# Altium footprint library Crazy_PCB.PcbLib: 155 footprints (part 10 of 10)
Each footprint in its own frame and in the unit in brackets; x right, y up, seen from the top. Pads: shape width x height; smd on the part's side, far side on the other; paste and mask are expansions set on the pad; w line width, h text height; cw(c..) or ccw(c..) is an arc to the next point about the centre after c.
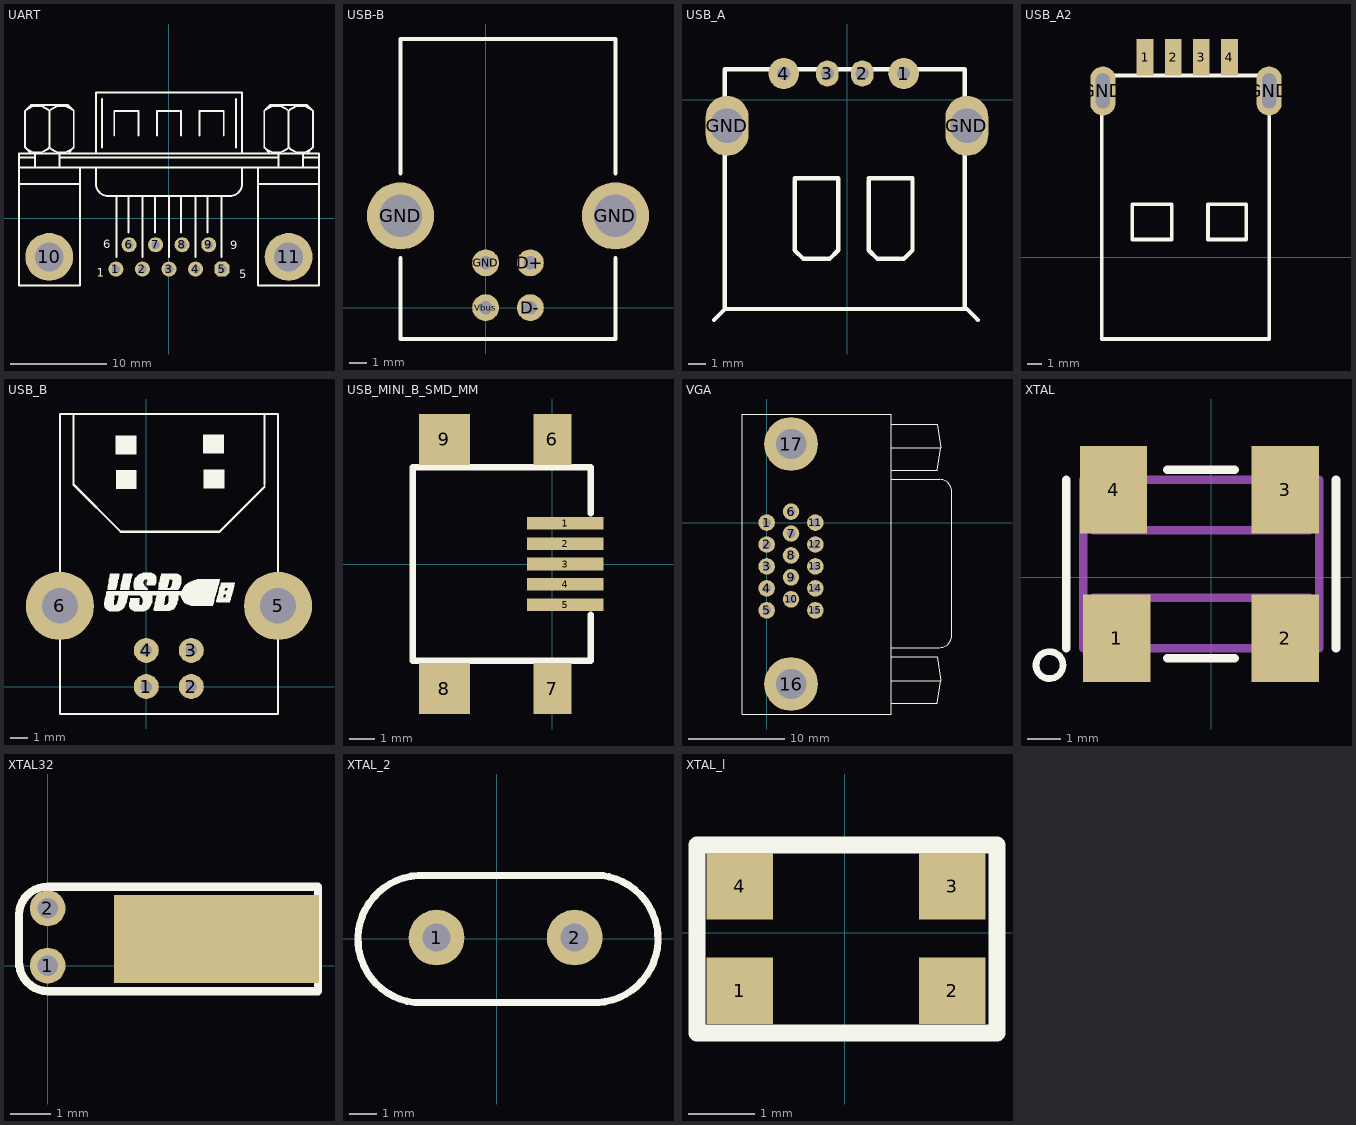
[diagram p9: the footprints below, top view; thin cyan lines are the x and y axes]

## UART [mil]
pads (11):
  round 62 hole 35: 1(-218.28,-209.25) 2(-109.11,-209.25) 3(0.05,-209.25) 4(109.22,-209.25) 6(-164.11,-109.25) 7(-54.95,-109.25) 8(54.22,-109.25) 9(163.39,-109.25)
  oct 62x62 hole 35: 5(218.39,-209.25)
  round 196.67 hole 118.33: 10(-492.45,-159.25) 11(491.72,-159.25)
Top Overlay:
  lines w8: -616.61,140.75 -366.61,140.75 ; -616.61,207.41 616.72,207.41 ; -616.61,249.08 -549.95,249.08 ; -591.7,290.66 ccw(c-541.61,340.75) -491.53,290.66 ; -591.7,440.83 cw(c-541.61,390.75) -491.53,440.83 ; -566.61,265.75 -591.61,290.75 -591.61,440.75 -566.61,465.75 -416.61,465.75 -391.61,440.75 -391.61,290.75 -416.61,265.75 ; -549.95,207.41 -549.95,265.75 ; -491.7,290.66 ccw(c-441.61,340.75) -391.53,290.66 ; -491.7,440.83 cw(c-441.61,390.75) -391.53,440.83 ; -491.61,290.75 -491.61,440.75 ; -449.95,207.41 -449.95,265.75 ; -449.95,249.08 450.05,249.08 ; -366.61,207.41 -366.61,-275.92 -616.61,-275.92 -616.61,265.75 616.72,265.75 616.72,-275.92 366.72,-275.92 366.72,207.41 ; -299.95,207.41 -299.95,140.75 ccw(c-249.95,140.75) -249.95,90.75 250.05,90.75 ccw(c250.05,140.75) 300.05,140.75 300.05,207.41 ; -299.95,265.75 -299.95,515.75 300.05,515.75 300.05,265.75 ; -274.95,290.75 -274.95,490.75 ; -224.95,340.75 -224.95,440.75 -124.95,440.75 -124.95,340.75 ; -216.61,-159.25 -216.61,90.75 ; -166.61,-59.25 -166.61,90.75 ; -108.28,-159.25 -108.28,90.75 ; -58.28,-59.25 -58.28,90.75 ; -49.95,340.75 -49.95,440.75 50.05,440.75 50.05,340.75 ; 0.05,-159.25 0.05,90.75 ; 50.05,-59.25 50.05,90.75 ; 108.39,-159.25 108.39,90.75 ; 125.05,340.75 125.05,440.75 225.05,440.75 225.05,340.75 ; 158.39,-59.25 158.39,90.75 ; 216.72,-159.25 216.72,90.75 ; 275.05,290.75 275.05,490.75 ; 366.72,140.75 616.72,140.75 ; 391.63,290.66 ccw(c441.72,340.75) 491.81,290.66 ; 391.63,440.83 cw(c441.72,390.75) 491.81,440.83 ; 416.72,265.75 391.72,290.75 391.72,440.75 416.72,465.75 566.72,465.75 591.72,440.75 591.72,290.75 566.72,265.75 ; 450.05,207.41 450.05,265.75 ; 491.63,290.66 ccw(c541.72,340.75) 591.81,290.66 ; 491.63,440.83 cw(c541.72,390.75) 591.81,440.83 ; 491.72,290.75 491.72,440.75 ; 550.05,207.41 550.05,265.75 ; 550.05,249.08 616.72,249.08
  text "1" at -296.18,-241.54 h35
  text "6" at -270.2,-124.61 h35
  text "5" at 289.25,-247.44 h35
  text "9" at 251.85,-127.76 h35
3D body: height 236.22, standoff 0, extent 366.74,-275.9 616.93,207.48
3D body: height 236.22, standoff 0, extent -616.59,-275.9 -366.54,205.12
3D body: height 236.22, standoff 118.11, extent -617.32,207.87 615.35,251.18
3D body: height 236.22, standoff 118.11, extent -299.93,265.77 300.03,515.73
3D body: height 236.22, standoff 0, extent -368.9,-277.56 367.32,207.87
3D body: height 0, standoff 0, extent -49.97,340.73 50.07,440.77
3D body: height 236.22, standoff 118.11, extent -589.3,271.06 -388.98,475
3D body: height 236.22, standoff 118.11, extent 392.59,281.3 592.91,485.24

## USB-B [mil]
pads (6):
  round 60 hole 30: D+(100,100) D-(100,0) GND(0,100) Vbus(0,0)
  round 150 hole 95: GND(-190,205) GND(290,205)
Top Overlay:
  lines w9.84: -190,110 -190,-70 0,-70 290,-70 290,110 ; -190,300 -190,600 290,600 290,300
3D body: height 393.7, standoff 0, extent -194.92,-74.92 294.92,604.92

## USB_A [mil]
pads (6):
  round 70.87 hole 30: 1(130,60) 4(-145,60)
  oval 52.13x60 hole 30: 2(35,60) 3(-45,60)
  oval 98.42x137.79 hole 78.74: GND(-275,-60) GND(275,-60)
Top Overlay:
  lines w9.84: -305,-505 -280,-480 ; -280,65 -280,-480 ; -280,70 270,70 270,-480 ; -120,-185 -120,-345 -100,-365 -50,-365 ; -120,-180 -20,-180 -20,-345 -40,-365 -45,-365 ; 50,-185 50,-345 70,-365 120,-365 ; 50,-180 150,-180 150,-345 130,-365 125,-365 ; 300,-505 275,-480 270,-480 ; -280,-480 270,-480
3D body: height 118.11, standoff 0, extent -309.92,-509.92 304.92,74.92

## USB_A2 [mm]
pads (6):
  rect 1.2x2.6 smd: 1(-21.9,14.27) 2(-19.9,14.27) 3(-17.9,14.27) 4(-15.9,14.27)
  oval 1.8x3.5 hole 1 slot 2.5 at 90 deg: GND(-24.91,11.87) GND(-13.07,11.87)
Top Overlay:
  lines w0.254: -24.99,12.95 -24.99,-5.81 -13.06,-5.81 -13.06,12.97 -24.98,12.97 ; -22.82,1.28 -20.01,1.28 -20.01,3.79 -22.82,3.79 -22.82,1.28 ; -17.42,1.28 -17.42,3.79 -14.7,3.79 -14.7,1.28 -17.42,1.28
3D body: height 3, standoff 0, extent -25.117,-5.937 -12.933,13.097

## USB_B [mil]
pads (6):
  round 55 hole 25: 1(0,0) 2(99,0) 3(99,79.74) 4(0,79.74)
  round 150 hole 78.74: 5(290,177.74) 6(-190,177.74)
Top Overlay:
  drawing of 1016 lines, arcs and shapes, not listed

## USB_MINI_B_SMD_MM [mm]
pads (9):
  rect 3x0.5 smd: 1(0.5,1.6) 2(0.5,0.8) 3(0.5,0) 4(0.5,-0.8) 5(0.5,-1.6)
  rect 1.5x2 smd: 6(0,4.9) 7(0,-4.9)
  rect 2x2 smd: 8(-4.25,-4.9) 9(-4.25,4.9)
Top Overlay:
  lines w0.254: 1.5,-2 1.5,-3.8 -5.5,-3.8 -5.5,3.8 1.5,3.8 1.5,2

## VGA [mil]
pads (17):
  round 68 hole 35: 1(0,0) 2(0,-90) 3(0,-180) 4(0,-270) 5(0,-360) 6(100,45) 7(100,-45) 8(100,-135) 9(100,-225) 10(100,-315) 11(200,0) 12(200,-90) 13(200,-180) 14(200,-270) 15(200,-360)
  round 220 hole 125: 16(100,-662) 17(100,322)
Top Overlay:
  lines w5: 510,-504 510,136 ; 510.24,441 510.24,445 ; 511,-740 699,-740 713,-648 ; 511,-648 713,-648 ; 511,-550 699,-550 713,-648 ; 511,-512.49 709,-512.49 ccw(c709,-462.49) 759,-462.49 759,126.49 ccw(c709,126.49) 709,176.49 511,176.49 ; 511,214 699,214 713,306 ; 511,306 713,306 ; 511,404 699,404 713,306 ; 510.24,445 510.24,-785 -100,-785 -100,445 510.24,445

## XTAL [mm]
pads (4):
  rect 2x2.6 smd: 1(-2.794,-1.808) 2(2.206,-1.808) 3(2.206,2.592) 4(-2.894,2.592)
Top Overlay:
  circle w0.2: c-4.794,-2.608 r0.4
  lines w0.254: -4.294,-2.108 -4.294,2.892 ; -1.294,-2.408 0.706,-2.408 ; -1.294,3.192 0.706,3.192 ; 3.706,-2.108 3.706,2.892
Mechanical 1:
  lines w0.254: -3.494,-2.108 -3.494,-0.908 -2.094,-0.908 -2.094,-2.108 ; -3.494,-0.608 2.906,-0.608 ; -3.494,1.392 2.906,1.392 ; -3.494,2.892 -3.494,1.692 -2.094,1.692 -2.094,2.892 ; 1.506,-2.108 1.506,-0.908 2.906,-0.908 2.906,-2.108 ; 1.506,2.892 1.506,1.692 2.906,1.692 2.906,2.892 ; -3.794,-2.108 3.206,-2.108 3.206,2.892 -3.794,2.892 -3.794,-2.108
3D body: height 1.5, standoff 0, extent -3.996,-3.21 3.308,3.994

## XTAL32 [mil]
pads (3):
  round 35 hole 20: 1(0,0) 2(0,56)
  rect 200x86 smd: ""(165,26)
Top Overlay:
  lines w8: -28,4 ccw(c0.5,3.5) 0,-25 264,-25 264,77 0,77 ccw(c-0.5,49.5) -28,50 -28,4
3D body: height 78.74, standoff 0, extent -32,-29 269,81

## XTAL_2 [mm]
pads (2):
  round 2 hole 1: 1(-2.157,0.035) 2(2.796,0.035)
Top Overlay:
  lines w0.25: -2.922,-2.289 3.682,-2.289 ; -2.815,2.266 3.84,2.266
  lines w0.254: -2.956,-2.294 cw(c-2.688,-0.02) -2.815,2.266 ; 3.625,-2.296 ccw(c3.498,-0.01) 3.766,2.264
3D body: height 2.5, standoff 0, extent -5.105,-2.423 5.915,2.393

## XTAL_l [mm]
pads (4):
  rect 1x1 smd: 1(-1.58,-0.87) 2(1.62,-0.87) 3(1.62,0.7) 4(-1.58,0.7)
Top Overlay:
  lines w0.254: -2.22,-1.51 2.29,-1.51 2.29,1.32 -2.22,1.32 -2.22,-1.51
3D body: height 1.5, standoff 0, extent -2.182,-1.472 2.222,1.302